# Altium schematic symbol library Fuses.SchLib: 6 symbols
Pins are listed as number, name and electrical type; pins without a type are passive.

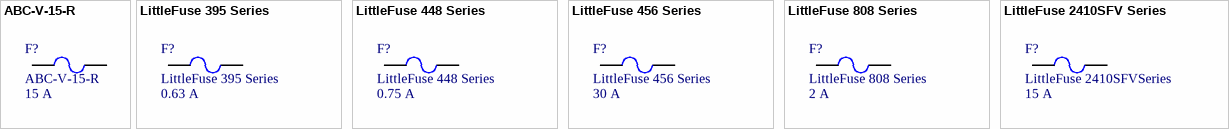
[diagram p0: symbols ABC-V-15-R to LittleFuse 2410SFV Series]

## ABC-V-15-R
designator F?  value 15 A
Bussmann / Eaton ABC-15 Fuse
footprint ABC-V-15-R (Bussmann / Eaton ABC-15 Fuse)
pins: 1, 2

## LittleFuse 395 Series
designator F?  Current Rating: 0.63 A
LittleFuse 395 Series - Through Hole Fuse
footprint 395 (LittleFuse 395 Series)
pins: 1, 2

## LittleFuse 448 Series
designator F?  Current Rating: 0.75 A
LittleFuse 448 Series - Surface Mount Fuse
footprint 448 (LittleFuse 448 Series)
pins: 1, 2

## LittleFuse 456 Series
designator F?  Current Rating: 30 A
LittleFuse 456 Series - Surface Mount Fuse
footprint 456 [20-30 A] (LittleFuse 456 Series)
footprint 456 [40A] (LittleFuse 456 Series)
pins: 1, 2

## LittleFuse 808 Series
designator F?  Current Rating: 2 A
LittleFuse 808 Series - Through Hole Fuse
footprint 808 (LittleFuse 808 Series)
pins: 1, 2

## LittleFuse 2410SFV Series
designator F?, comment LittleFuse 2410SFVSeries  Current Rating: 15 A
LittleFuse 2410SFV Series - Surface Mount Fuse
footprint 2410SFV (LittleFuse 2410SFV Series)
pins: 1, 2